# EAGLE library part AD694JZN (library AD694JNZ)
AD694JZN 4-20 mA Monolithic current transmitter AD694 Datasheet <http://www.analog.com/media/en/technical-documentation/data-sheets/AD694.pdf> ANALOG DEVICES
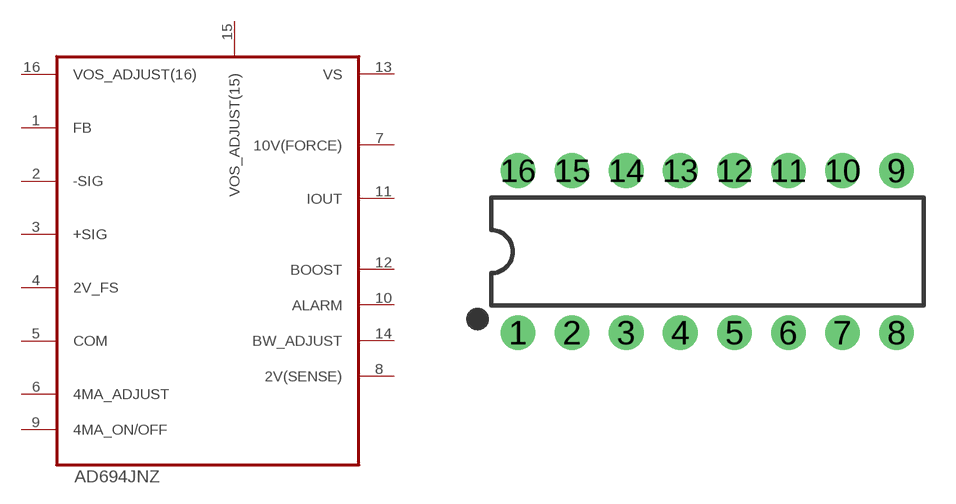
[diagram p0: symbol with the pads of DIP16; footprint DIP16]

Designator prefix U

## AD694JZN (PROD_ID: IC-08446; VALUE: AD694JZN)  [DIP16]
1  FB
2  -SIG
3  +SIG
4  2V_FS
5  COM
6  4MA_ADJUST
7  10V(FORCE)  out
8  2V(SENSE)  in
9  4MA_ON/OFF  out
10  ALARM  in
11  IOUT  in
12  BOOST  out
13  VS  in
14  BW_ADJUST  out
15  VOS_ADJUST(15)
16  VOS_ADJUST(16)

## Footprint DIP16 (pad centres in mm)
Dual In Line Package - 16 Specifications: Pin count:16 Example device(s): AD694JZN
drill 0.813 pad 1.626: 1 -8.89,-3.81; 2 -6.35,-3.81; 3 -3.81,-3.81; 4 -1.27,-3.81; 5 1.27,-3.81; 6 3.81,-3.81; 7 6.35,-3.81; 8 8.89,-3.81; 9 8.89,3.81; 10 6.35,3.81; 11 3.81,3.81; 12 1.27,3.81; 13 -1.27,3.81; 14 -3.81,3.81; 15 -6.35,3.81; 16 -8.89,3.81